# EAGLE library part 55510-316TRLF (library mLab_PressureMat)
16-pin SMD female socket
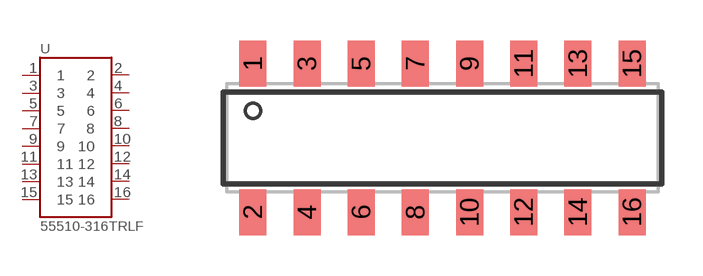
[diagram p1: symbol with the pads of 55510-316TRLF; footprint 55510-316TRLF]

Designator prefix -

## 55510-316TRLF  [55510-316TRLF]
1  1
2  2
3  3
4  4
5  5
6  6
7  7
8  8
9  9
10  10
11  11
12  12
13  13
14  14
15  15
16  16

## Footprint 55510-316TRLF (pad centres in mm)
16-pin SMD female socket
smd 1 x 1.7: 1 -7,2.75; 2 -7,-2.75; 3 -5,2.75; 4 -5,-2.75; 5 -3,2.75; 6 -3,-2.75; 7 -1,2.75; 8 -1,-2.75; 9 1,2.75; 10 1,-2.75; 11 3,2.75; 12 3,-2.75; 13 5,2.75; 14 5,-2.75; 15 7,2.75; 16 7,-2.75